# EAGLE library part S25FL004K0XMFI011 (library Spansion_By_element14_Batch_1)
4-Mbit CMOS 3.0 Volt Flash Memory
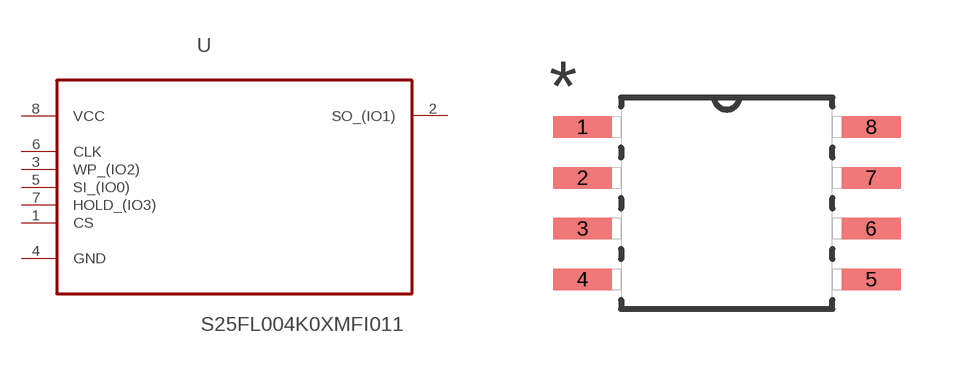
[diagram p0: symbol with the pads of SOIC127P800X215-8N; footprint SOIC127P800X215-8N]

Designator prefix U

## S25FL004K0XMFI011 (MPN: S25FL004K0XMFI011; OC_FARNELL: 1861624; OC_NEWARK: 27T2967; PACKAGE: SOIC-8; SUPPLIER: SPANSION)  [SOIC127P800X215-8N]
1  CS  in
2  SO_(IO1)  out
3  WP_(IO2)
4  GND  pas
5  SI_(IO0)
6  CLK  in
7  HOLD_(IO3)
8  VCC  pwr

## Footprint SOIC127P800X215-8N (pad centres in mm)
smd 1.473 x 0.533: 1 -3.607,1.905; 2 -3.607,0.635; 3 -3.607,-0.635; 4 -3.607,-1.905; 5 3.607,-1.905; 6 3.607,-0.635; 7 3.607,0.635; 8 3.607,1.905